# Altium footprint library Kondensator_DIP.PcbLib: 221 footprints (part 13 of 14)
Each footprint in its own frame and in the unit in brackets; x right, y up, seen from the top. Pads: shape width x height; smd on the part's side, far side on the other; paste and mask are expansions set on the pad; w line width, h text height; cw(c..) or ccw(c..) is an arc to the next point about the centre after c.
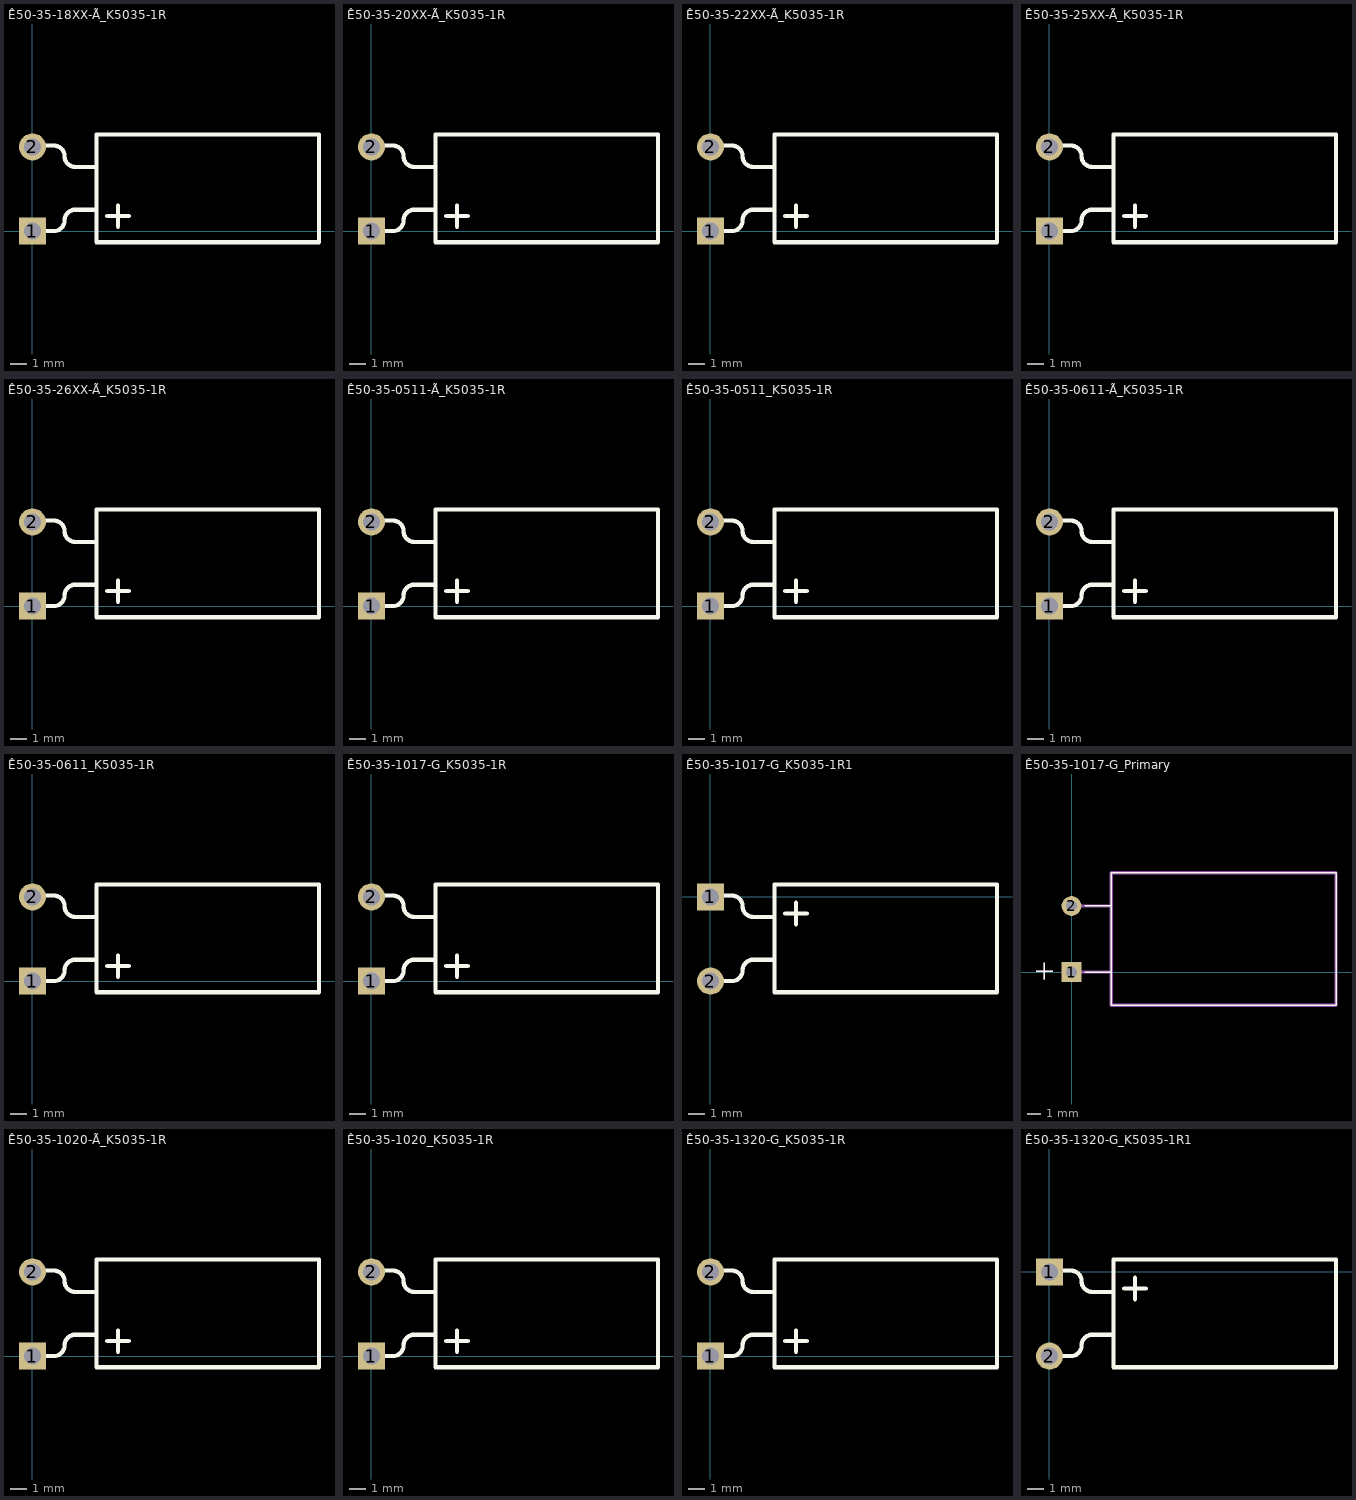
[diagram p12: the footprints below, top view; thin cyan lines are the x and y axes]

## Ê50-35-18XX-Ã_K5035-1R [mm]
pads (2):
  rect 1.6x1.6 hole 1: 1(0,0)
  round 1.6 hole 1: 2(0,5)
Top Overlay:
  lines w0.25: 0,0 1.27,0 ; 0,5.08 1.27,5.08 ; 1.271,0 ccw(c1.27,0.635) 1.905,0.635 ; 1.271,5.08 cw(c1.27,4.445) 1.905,4.445 ; 1.905,0.636 cw(c2.54,0.635) 2.541,1.27 ; 1.905,4.446 ccw(c2.54,4.445) 2.541,3.81 ; 2.54,1.27 3.81,1.27 ; 2.54,3.81 3.81,3.81 ; 4.445,0.889 5.715,0.889 ; 5.08,0.254 5.08,1.524 ; 3.81,-0.66 17.018,-0.66 17.018,5.74 3.81,5.74 3.81,-0.66

## Ê50-35-20XX-Ã_K5035-1R [mm]
pads (2):
  rect 1.6x1.6 hole 1: 1(0,0)
  round 1.6 hole 1: 2(0,5)
Top Overlay:
  lines w0.25: 0,0 1.27,0 ; 0,5.08 1.27,5.08 ; 1.271,0 ccw(c1.27,0.635) 1.905,0.635 ; 1.271,5.08 cw(c1.27,4.445) 1.905,4.445 ; 1.905,0.636 cw(c2.54,0.635) 2.541,1.27 ; 1.905,4.446 ccw(c2.54,4.445) 2.541,3.81 ; 2.54,1.27 3.81,1.27 ; 2.54,3.81 3.81,3.81 ; 4.445,0.889 5.715,0.889 ; 5.08,0.254 5.08,1.524 ; 3.81,-0.66 17.018,-0.66 17.018,5.74 3.81,5.74 3.81,-0.66

## Ê50-35-22XX-Ã_K5035-1R [mm]
pads (2):
  rect 1.6x1.6 hole 1: 1(0,0)
  round 1.6 hole 1: 2(0,5)
Top Overlay:
  lines w0.25: 0,0 1.27,0 ; 0,5.08 1.27,5.08 ; 1.271,0 ccw(c1.27,0.635) 1.905,0.635 ; 1.271,5.08 cw(c1.27,4.445) 1.905,4.445 ; 1.905,0.636 cw(c2.54,0.635) 2.541,1.27 ; 1.905,4.446 ccw(c2.54,4.445) 2.541,3.81 ; 2.54,1.27 3.81,1.27 ; 2.54,3.81 3.81,3.81 ; 4.445,0.889 5.715,0.889 ; 5.08,0.254 5.08,1.524 ; 3.81,-0.66 17.018,-0.66 17.018,5.74 3.81,5.74 3.81,-0.66

## Ê50-35-25XX-Ã_K5035-1R [mm]
pads (2):
  rect 1.6x1.6 hole 1: 1(0,0)
  round 1.6 hole 1: 2(0,5)
Top Overlay:
  lines w0.25: 0,0 1.27,0 ; 0,5.08 1.27,5.08 ; 1.271,0 ccw(c1.27,0.635) 1.905,0.635 ; 1.271,5.08 cw(c1.27,4.445) 1.905,4.445 ; 1.905,0.636 cw(c2.54,0.635) 2.541,1.27 ; 1.905,4.446 ccw(c2.54,4.445) 2.541,3.81 ; 2.54,1.27 3.81,1.27 ; 2.54,3.81 3.81,3.81 ; 4.445,0.889 5.715,0.889 ; 5.08,0.254 5.08,1.524 ; 3.81,-0.66 17.018,-0.66 17.018,5.74 3.81,5.74 3.81,-0.66

## Ê50-35-26XX-Ã_K5035-1R [mm]
pads (2):
  rect 1.6x1.6 hole 1: 1(0,0)
  round 1.6 hole 1: 2(0,5)
Top Overlay:
  lines w0.25: 0,0 1.27,0 ; 0,5.08 1.27,5.08 ; 1.271,0 ccw(c1.27,0.635) 1.905,0.635 ; 1.271,5.08 cw(c1.27,4.445) 1.905,4.445 ; 1.905,0.636 cw(c2.54,0.635) 2.541,1.27 ; 1.905,4.446 ccw(c2.54,4.445) 2.541,3.81 ; 2.54,1.27 3.81,1.27 ; 2.54,3.81 3.81,3.81 ; 4.445,0.889 5.715,0.889 ; 5.08,0.254 5.08,1.524 ; 3.81,-0.66 17.018,-0.66 17.018,5.74 3.81,5.74 3.81,-0.66

## Ê50-35-0511-Ã_K5035-1R [mm]
pads (2):
  rect 1.6x1.6 hole 1: 1(0,0)
  round 1.6 hole 1: 2(0,5)
Top Overlay:
  lines w0.25: 0,0 1.27,0 ; 0,5.08 1.27,5.08 ; 1.271,0 ccw(c1.27,0.635) 1.905,0.635 ; 1.271,5.08 cw(c1.27,4.445) 1.905,4.445 ; 1.905,0.636 cw(c2.54,0.635) 2.541,1.27 ; 1.905,4.446 ccw(c2.54,4.445) 2.541,3.81 ; 2.54,1.27 3.81,1.27 ; 2.54,3.81 3.81,3.81 ; 4.445,0.889 5.715,0.889 ; 5.08,0.254 5.08,1.524 ; 3.81,-0.66 17.018,-0.66 17.018,5.74 3.81,5.74 3.81,-0.66

## Ê50-35-0511_K5035-1R [mm]
pads (2):
  rect 1.6x1.6 hole 1: 1(0,0)
  round 1.6 hole 1: 2(0,5)
Top Overlay:
  lines w0.25: 0,0 1.27,0 ; 0,5.08 1.27,5.08 ; 1.271,0 ccw(c1.27,0.635) 1.905,0.635 ; 1.271,5.08 cw(c1.27,4.445) 1.905,4.445 ; 1.905,0.636 cw(c2.54,0.635) 2.541,1.27 ; 1.905,4.446 ccw(c2.54,4.445) 2.541,3.81 ; 2.54,1.27 3.81,1.27 ; 2.54,3.81 3.81,3.81 ; 4.445,0.889 5.715,0.889 ; 5.08,0.254 5.08,1.524 ; 3.81,-0.66 17.018,-0.66 17.018,5.74 3.81,5.74 3.81,-0.66

## Ê50-35-0611-Ã_K5035-1R [mm]
pads (2):
  rect 1.6x1.6 hole 1: 1(0,0)
  round 1.6 hole 1: 2(0,5)
Top Overlay:
  lines w0.25: 0,0 1.27,0 ; 0,5.08 1.27,5.08 ; 1.271,0 ccw(c1.27,0.635) 1.905,0.635 ; 1.271,5.08 cw(c1.27,4.445) 1.905,4.445 ; 1.905,0.636 cw(c2.54,0.635) 2.541,1.27 ; 1.905,4.446 ccw(c2.54,4.445) 2.541,3.81 ; 2.54,1.27 3.81,1.27 ; 2.54,3.81 3.81,3.81 ; 4.445,0.889 5.715,0.889 ; 5.08,0.254 5.08,1.524 ; 3.81,-0.66 17.018,-0.66 17.018,5.74 3.81,5.74 3.81,-0.66

## Ê50-35-0611_K5035-1R [mm]
pads (2):
  rect 1.6x1.6 hole 1: 1(0,0)
  round 1.6 hole 1: 2(0,5)
Top Overlay:
  lines w0.25: 0,0 1.27,0 ; 0,5.08 1.27,5.08 ; 1.271,0 ccw(c1.27,0.635) 1.905,0.635 ; 1.271,5.08 cw(c1.27,4.445) 1.905,4.445 ; 1.905,0.636 cw(c2.54,0.635) 2.541,1.27 ; 1.905,4.446 ccw(c2.54,4.445) 2.541,3.81 ; 2.54,1.27 3.81,1.27 ; 2.54,3.81 3.81,3.81 ; 4.445,0.889 5.715,0.889 ; 5.08,0.254 5.08,1.524 ; 3.81,-0.66 17.018,-0.66 17.018,5.74 3.81,5.74 3.81,-0.66

## Ê50-35-1017-G_K5035-1R [mm]
pads (2):
  rect 1.6x1.6 hole 1: 1(0,0)
  round 1.6 hole 1: 2(0,5)
Top Overlay:
  lines w0.25: 0,0 1.27,0 ; 0,5.08 1.27,5.08 ; 1.271,0 ccw(c1.27,0.635) 1.905,0.635 ; 1.271,5.08 cw(c1.27,4.445) 1.905,4.445 ; 1.905,0.636 cw(c2.54,0.635) 2.541,1.27 ; 1.905,4.446 ccw(c2.54,4.445) 2.541,3.81 ; 2.54,1.27 3.81,1.27 ; 2.54,3.81 3.81,3.81 ; 4.445,0.889 5.715,0.889 ; 5.08,0.254 5.08,1.524 ; 3.81,-0.66 17.018,-0.66 17.018,5.74 3.81,5.74 3.81,-0.66

## Ê50-35-1017-G_K5035-1R1 [mm]
pads (2):
  rect 1.6x1.6 hole 1: 1(0,0)
  round 1.6 hole 1: 2(0,-5)
Top Overlay:
  lines w0.25: 0,-5 1.27,-5 ; 0,0.08 1.27,0.08 ; 1.271,-5 ccw(c1.27,-4.365) 1.905,-4.365 ; 1.271,0.08 cw(c1.27,-0.555) 1.905,-0.555 ; 1.905,-4.364 cw(c2.54,-4.365) 2.541,-3.73 ; 1.905,-0.554 ccw(c2.54,-0.555) 2.541,-1.19 ; 2.54,-3.73 3.81,-3.73 ; 2.54,-1.19 3.81,-1.19 ; 4.445,-0.986 5.715,-0.986 ; 5.08,-1.621 5.08,-0.351 ; 3.81,-5.66 17.018,-5.66 17.018,0.74 3.81,0.74 3.81,-5.66

## Ê50-35-1017-G_Primary [mm]
pads (2):
  rect 1.5x1.5 hole 0.8: 1(0,0)
  round 1.5 hole 0.8: 2(0,5)
Top Overlay:
  lines w0.1: -2.685,0.079 -1.415,0.079 ; -2.05,-0.556 -2.05,0.714 ; 1,0 3,0 ; 1,5 3,5 ; 3,-2.5 20,-2.5 20,7.5 3,7.5 3,-2.5
Mechanical 1:
  lines w0.1: -2.685,0.049 -1.415,0.049 ; -2.05,-0.586 -2.05,0.684
  lines w0.25: 0,0 3,0 ; 0,5 3,5 ; 3,-2.5 20,-2.5 20,7.5 3,7.5 3,-2.5

## Ê50-35-1020-Ã_K5035-1R [mm]
pads (2):
  rect 1.6x1.6 hole 1: 1(0,0)
  round 1.6 hole 1: 2(0,5)
Top Overlay:
  lines w0.25: 0,0 1.27,0 ; 0,5.08 1.27,5.08 ; 1.271,0 ccw(c1.27,0.635) 1.905,0.635 ; 1.271,5.08 cw(c1.27,4.445) 1.905,4.445 ; 1.905,0.636 cw(c2.54,0.635) 2.541,1.27 ; 1.905,4.446 ccw(c2.54,4.445) 2.541,3.81 ; 2.54,1.27 3.81,1.27 ; 2.54,3.81 3.81,3.81 ; 4.445,0.889 5.715,0.889 ; 5.08,0.254 5.08,1.524 ; 3.81,-0.66 17.018,-0.66 17.018,5.74 3.81,5.74 3.81,-0.66

## Ê50-35-1020_K5035-1R [mm]
pads (2):
  rect 1.6x1.6 hole 1: 1(0,0)
  round 1.6 hole 1: 2(0,5)
Top Overlay:
  lines w0.25: 0,0 1.27,0 ; 0,5.08 1.27,5.08 ; 1.271,0 ccw(c1.27,0.635) 1.905,0.635 ; 1.271,5.08 cw(c1.27,4.445) 1.905,4.445 ; 1.905,0.636 cw(c2.54,0.635) 2.541,1.27 ; 1.905,4.446 ccw(c2.54,4.445) 2.541,3.81 ; 2.54,1.27 3.81,1.27 ; 2.54,3.81 3.81,3.81 ; 4.445,0.889 5.715,0.889 ; 5.08,0.254 5.08,1.524 ; 3.81,-0.66 17.018,-0.66 17.018,5.74 3.81,5.74 3.81,-0.66

## Ê50-35-1320-G_K5035-1R [mm]
pads (2):
  rect 1.6x1.6 hole 1: 1(0,0)
  round 1.6 hole 1: 2(0,5)
Top Overlay:
  lines w0.25: 0,0 1.27,0 ; 0,5.08 1.27,5.08 ; 1.271,0 ccw(c1.27,0.635) 1.905,0.635 ; 1.271,5.08 cw(c1.27,4.445) 1.905,4.445 ; 1.905,0.636 cw(c2.54,0.635) 2.541,1.27 ; 1.905,4.446 ccw(c2.54,4.445) 2.541,3.81 ; 2.54,1.27 3.81,1.27 ; 2.54,3.81 3.81,3.81 ; 4.445,0.889 5.715,0.889 ; 5.08,0.254 5.08,1.524 ; 3.81,-0.66 17.018,-0.66 17.018,5.74 3.81,5.74 3.81,-0.66

## Ê50-35-1320-G_K5035-1R1 [mm]
pads (2):
  rect 1.6x1.6 hole 1: 1(0,0)
  round 1.6 hole 1: 2(0,-5)
Top Overlay:
  lines w0.25: 0,-5 1.27,-5 ; 0,0.08 1.27,0.08 ; 1.271,-5 ccw(c1.27,-4.365) 1.905,-4.365 ; 1.271,0.08 cw(c1.27,-0.555) 1.905,-0.555 ; 1.905,-4.364 cw(c2.54,-4.365) 2.541,-3.73 ; 1.905,-0.554 ccw(c2.54,-0.555) 2.541,-1.19 ; 2.54,-3.73 3.81,-3.73 ; 2.54,-1.19 3.81,-1.19 ; 4.445,-0.986 5.715,-0.986 ; 5.08,-1.621 5.08,-0.351 ; 3.81,-5.66 17.018,-5.66 17.018,0.74 3.81,0.74 3.81,-5.66